# Altium footprint library COBITX_COBISHIL_pcblib.PcbLib: 1 footprints
Each footprint in its own frame and in the unit in brackets; x right, y up, seen from the top. Pads: shape width x height; smd on the part's side, far side on the other; paste and mask are expansions set on the pad; w line width, h text height; cw(c..) or ccw(c..) is an arc to the next point about the centre after c.
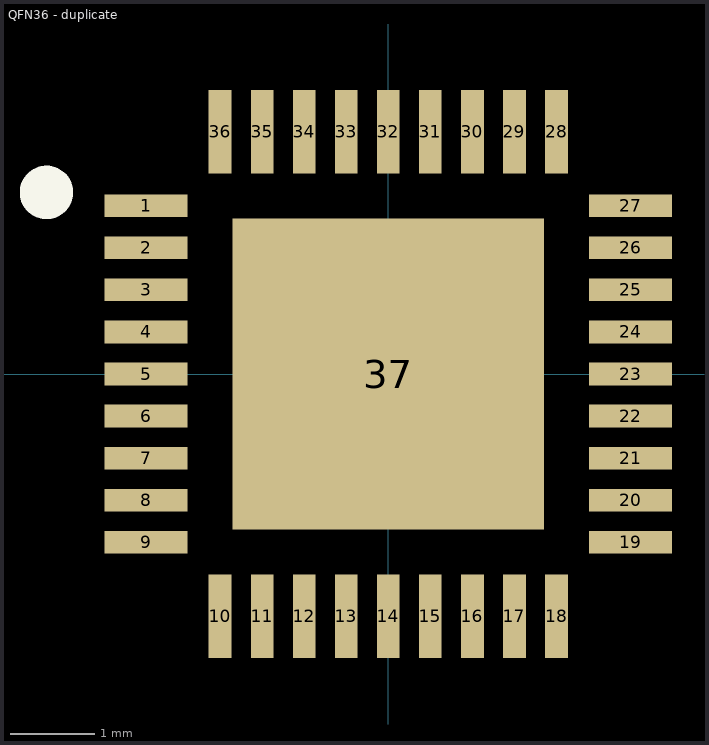
[diagram p0: the footprint, top view; thin cyan lines are the x and y axes]

## QFN36 - duplicate [mm]
pads (37):
  rect 0.99x0.27 smd mask+0: 1(-2.88,2) 2(-2.88,1.5) 3(-2.88,1) 4(-2.88,0.5) 5(-2.88,0) 6(-2.88,-0.5) 7(-2.88,-1) 8(-2.88,-1.5) 9(-2.88,-2) 19(2.88,-2) 20(2.88,-1.5) 21(2.88,-1) 22(2.88,-0.5) 23(2.88,0) 24(2.88,0.5) 25(2.88,1) 26(2.88,1.5) 27(2.88,2)
  rect 0.27x0.99 smd mask+0: 10(-2,-2.88) 11(-1.5,-2.88) 12(-1,-2.88) 13(-0.5,-2.88) 14(0,-2.88) 15(0.5,-2.88) 16(1,-2.88) 17(1.5,-2.88) 18(2,-2.88) 28(2,2.88) 29(1.5,2.88) 30(1,2.88) 31(0.5,2.88) 32(0,2.88) 33(-0.5,2.88) 34(-1,2.88) 35(-1.5,2.88) 36(-2,2.88)
  rect 3.7x3.7 smd mask+0: 37(0,0)
Top Overlay:
  circle w0.381: c-4.064,2.159 r0.127